# EAGLE library part TE_AMP_SURESEAL_26 (library TE_Sureseal)
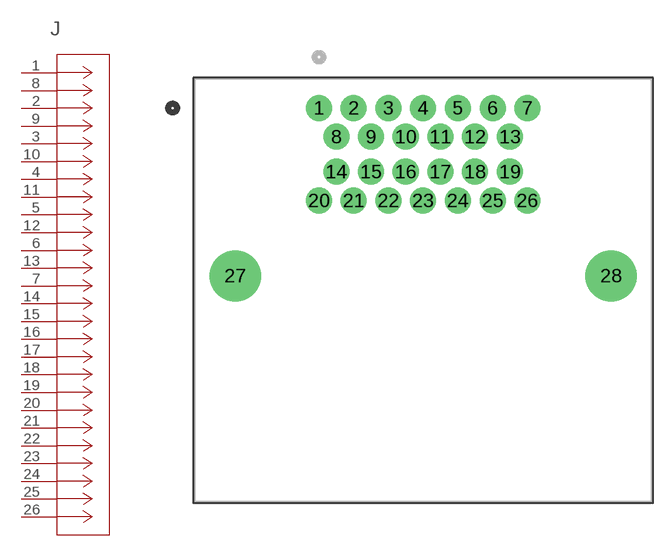
[diagram p0: symbol with the pads of CONN26_6473423-1_TEC; footprint CONN26_6473423-1_TEC]

Designator prefix J

## TE_AMP_SURESEAL_26 (COPYRIGHT: Copyright (C) 2023 Ultra Librarian. All rights reserved.; DIGIKEY_PART_NUMBER_1: 6473423-1-ND; MANUFACTURER_PART_NUMBER: 6473423-1; MFR_NAME: TE Connectivity)  [CONN26_6473423-1_TEC]
1  1  pas
2  2  pas
3  3  pas
4  4  pas
5  5  pas
6  6  pas
7  7  pas
8  8  pas
9  9  pas
10  10  pas
11  11  pas
12  12  pas
13  13  pas
14  14  pas
15  15  pas
16  16  pas
17  17  pas
18  18  pas
19  19  pas
20  20  pas
21  21  pas
22  22  pas
23  23  pas
24  24  pas
25  25  pas
26  26  pas

## Footprint CONN26_6473423-1_TEC (pad centres in mm)
drill 1.499 pad 2.007: 1 0,0; 2 2.997,0; 3 5.994,0; 4 8.992,0; 5 11.989,0; 6 15.011,0; 7 18.009,0; 8 1.499,-2.489; 9 4.496,-2.489; 10 7.493,-2.489; 11 10.49,-2.489; 12 13.487,-2.489; 13 16.51,-2.489; 14 1.499,-5.512; 15 4.496,-5.512; 16 7.493,-5.512; 17 10.49,-5.512; 18 13.487,-5.512; 19 16.51,-5.512; 20 0,-8.001; 21 2.997,-8.001; 22 5.994,-8.001; 23 8.992,-8.001; 24 11.989,-8.001; 25 15.011,-8.001; 26 18.009,-8.001
drill 3.404 pad 3.404: 27 -7.239,-14.503; 28 25.248,-14.503